# EAGLE library part ELM323P (library elm)
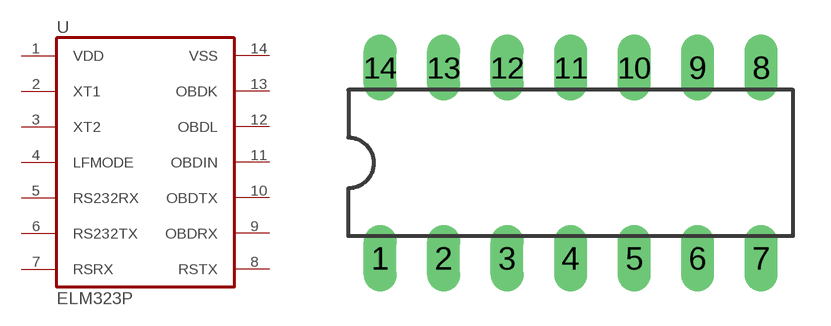
[diagram p0: symbol with the pads of ELM323P; footprint ELM323P]

Designator prefix -

## ELM323P  [ELM323P]
1  VDD  pwr
2  XT1
3  XT2
4  LFMODE
5  RS232RX
6  RS232TX
7  RSRX
8  RSTX
9  OBDRX
10  OBDTX
11  OBDIN
12  OBDL
13  OBDK
14  VSS  pwr

## Footprint ELM323P (pad centres in mm)
drill 0.813 long: 1 -7.62,2.54; 2 -5.08,2.54; 3 -2.54,2.54; 4 0,2.54; 5 2.54,2.54; 6 5.08,2.54; 7 7.62,2.54; 8 7.62,10.16; 9 5.08,10.16; 10 2.54,10.16; 11 0,10.16; 12 -2.54,10.16; 13 -5.08,10.16; 14 -7.62,10.16